# Altium schematic symbol library Key.SchLib: 1 symbol
Pins are listed as number, name and electrical type; pins without a type are passive.

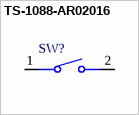
[diagram p0: symbol TS-1088-AR02016]

## TS-1088-AR02016
designator SW?, comment FUN  (value not drawn)
触点电流:50mA;额定电压(DC):12V;绝缘电阻:100MΩ;电路结构:单刀单掷;安装方式:立贴;作用力:160gf@±50gf;机械寿命:10万次;带支架:否;; Manufacturer: XUNPU(讯普); Symbol: TS-1088-AR02016; Add into BOM: yes; Contact Current: 50mA; Voltage Rating (DC): 12V; Insulation Resistance: 100MΩ; Circuit: 单刀单掷; Actuator Style: 圆形按钮; Actuator/Cap Color: 黑色; Mechanical Life: 10万次; Pin Style: SMD接片; Switch Length: 4mm; Switch Width: 3mm; Switch Height: 2mm; Strike Gundam: 否; Device: TS-1088-AR02016; LCSC Part Name: 4*3*2mm立贴轻触开关; Supplier Part: C720477; Manufacturer Part: TS-1088-AR02016; Supplier Footprint: SMD; JLCPCB Part Class: ExtendedPart; Datasheet: https://atta.szlcsc.com/upload/public/pdf/source/20200810/C720475_60D09DD6C54279ADDB2DC25100F1CC11.pdf; Supplier: LCSC; Convert to PCB: yes; Mounting Style: 立贴; Operating Force: 160gf@±50gf; Operating Temperature: -30℃~+80℃
footprint SW-SMD_L3.9-W3.0-P4.45
3D model SW-SMD_L3.9-W2.9-H2.0-LS4.8
pins: 1, 2